# Altium schematic symbol library AC0805FR-1010ML.SchLib: 1 symbol
Pins are listed as number, name and electrical type; pins without a type are passive.

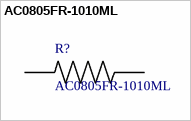
[diagram p0: symbol AC0805FR-1010ML]

## AC0805FR-1010ML
designator R?
SnapEDA_Link: https://www.snapeda.com/parts/AC0805FR-1010ML/Yageo/view-part/?ref=snap; Check_prices: https://www.snapeda.com/parts/AC0805FR-1010ML/Yageo/view-part/?ref=eda; Value: *
footprint *RESC2012X60N
pins: 1, 2